# Altium footprint library SSOP-56.PcbLib: 1 footprints
Each footprint in its own frame and in the unit in brackets; x right, y up, seen from the top. Pads: shape width x height; smd on the part's side, far side on the other; paste and mask are expansions set on the pad; w line width, h text height; cw(c..) or ccw(c..) is an arc to the next point about the centre after c.
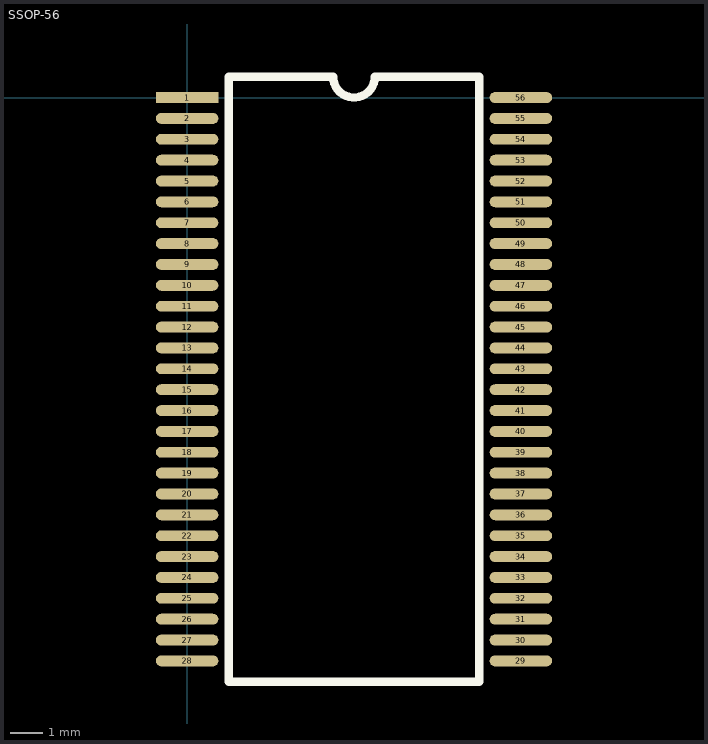
[diagram p0: the footprint, top view; thin cyan lines are the x and y axes]

## SSOP-56 [mil]
pads (56):
  rect 75x13 smd: 1(0,0)
  oval 75x13 smd: 2(0,-25) 3(0,-50) 4(0,-75) 5(0,-100) 6(0,-125) 7(0,-150) 8(0,-175) 9(0,-200) 10(0,-225) 11(0,-250) 12(0,-275) 13(0,-300) 14(0,-325) 15(0,-350) 16(0,-375) 17(0,-400) 18(0,-425) 19(0,-450) 20(0,-475) 21(0,-500) 22(0,-525) 23(0,-550) 24(0,-575) 25(0,-600) 26(0,-625) 27(0,-650) 28(0,-675) 29(400,-675) 30(400,-650) 31(400,-625) 32(400,-600) 33(400,-575) 34(400,-550) 35(400,-525) 36(400,-500) 37(400,-475) 38(400,-450) 39(400,-425) 40(400,-400) 41(400,-375) 42(400,-350) 43(400,-325) 44(400,-300) 45(400,-275) 46(400,-250) 47(400,-225) 48(400,-200) 49(400,-175) 50(400,-150) 51(400,-125) 52(400,-100) 53(400,-75) 54(400,-50) 55(400,-25) 56(400,0)
Top Overlay:
  lines w10: 50,-700 350,-700 350,25 225,25 cw(c200,25) 175,25 50,25 50,-700